# EAGLE library part LM393D (library LM393D)
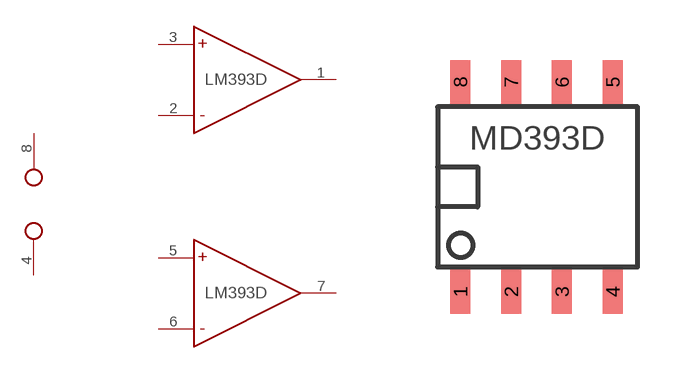
[diagram p0: symbol with the pads of LM393D; footprint LM393D]

Designator prefix -; gates G$1=PSUPLY G$2=LM393D G$3=LM393D

## LM393D  [LM393D]
1  G$2:OUT  out
2  G$2:IN-  in
3  G$2:IN+  in
4  G$1:GND  pwr
5  G$3:IN+  in
6  G$3:IN-  in
7  G$3:OUT  out
8  G$1:VCC  pwr

## Footprint LM393D (pad centres in mm)
smd 0.5 x 1.1: 1 0.57,-0.62; 2 1.84,-0.62; 3 3.11,-0.62; 4 4.38,-0.62; 5 4.38,4.62; 6 3.11,4.62; 7 1.84,4.62; 8 0.57,4.62